# Altium footprint library ADP_Passive.PcbLib: 48 footprints (part 2 of 3)
Each footprint in its own frame and in the unit in brackets; x right, y up, seen from the top. Pads: shape width x height; smd on the part's side, far side on the other; paste and mask are expansions set on the pad; w line width, h text height; cw(c..) or ccw(c..) is an arc to the next point about the centre after c.
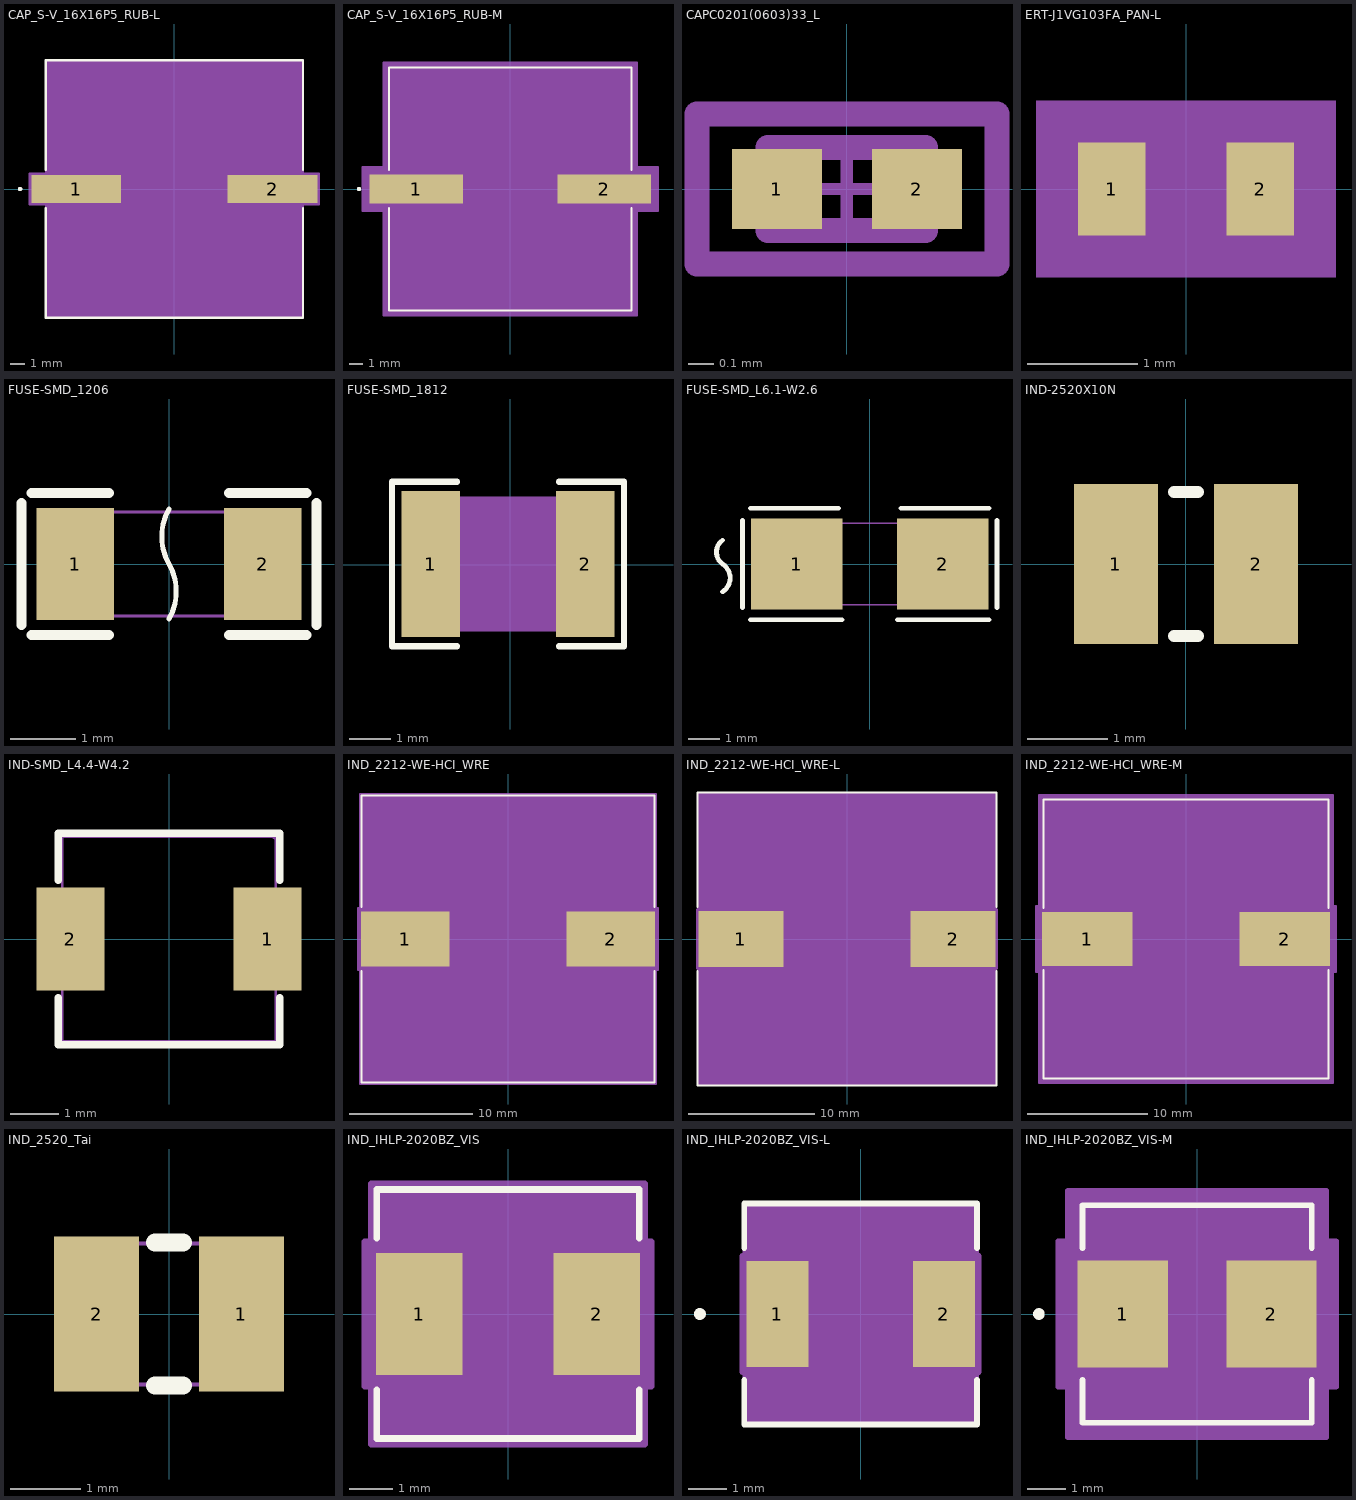
[diagram p1: the footprints below, top view; thin cyan lines are the x and y axes]

## CAP_S-V_16X16P5_RUB-L [mil]
pads (2):
  rect 240x75 smd paste+0 mask+0: 1(-262,0) 2(262,0)
Top Overlay:
  circle w6: c-412,0 r3
  lines w6: -343.5,-50.6 -343.5,-343.5 343.5,-343.5 343.5,-50.6 ; -343.5,50.6 -343.5,343.5 343.5,343.5 343.5,50.6
Mechanical 13:
  circle w0: c-318.5,0 r3
  lines w1: -338.5,-169.25 -169.25,-338.5 ; -338.5,169.25 -169.25,338.5 ; -338.5,-338.5 338.5,-338.5 338.5,338.5 -338.5,338.5 -338.5,-338.5
Mechanical 15:
  region: -342.5,-41.5 -386,-41.5 -386,41.5 -342.5,41.5 -342.5,342.5 342.5,342.5 342.5,41.5 386,41.5 386,-41.5 342.5,-41.5 342.5,-342.5 -342.5,-342.5
  lines w6: -386,-41.5 -386,41.5 -342.5,41.5 -342.5,342.5 342.5,342.5 342.5,41.5 386,41.5 386,-41.5 342.5,-41.5 342.5,-342.5 -342.5,-342.5 -342.5,-41.5 -386,-41.5
3D body "CAP_S-V_16X16P5_RUB.step": height 671.1, standoff 0, extent -370,-338.5 370,338.5

## CAP_S-V_16X16P5_RUB-M [mil]
pads (2):
  rect 264x83 smd paste+0 mask+0: 1(-266,0) 2(266,0)
Top Overlay:
  circle w6: c-428,0 r3
  lines w6: -343.5,-54.6 -343.5,-343.5 343.5,-343.5 343.5,-54.6 ; -343.5,54.6 -343.5,343.5 343.5,343.5 343.5,54.6
Mechanical 13:
  circle w0: c-318.5,0 r3
  lines w1: -338.5,-169.25 -169.25,-338.5 ; -338.5,169.25 -169.25,338.5 ; -338.5,-338.5 -338.5,338.5 338.5,338.5 338.5,-338.5 -338.5,-338.5
Mechanical 15:
  region: -358.5,-61.5 -418,-61.5 -418,61.5 -358.5,61.5 -358.5,358.5 358.5,358.5 358.5,61.5 418,61.5 418,-61.5 358.5,-61.5 358.5,-358.5 -358.5,-358.5
  lines w6: -418,-61.5 -358.5,-61.5 -358.5,-358.5 358.5,-358.5 358.5,-61.5 418,-61.5 418,61.5 358.5,61.5 358.5,358.5 -358.5,358.5 -358.5,61.5 -418,61.5 -418,-61.5
3D body "CAP_S-V_16X16P5_RUB.step": height 671.1, standoff 0, extent -370,-338.5 370,338.5

## CAPC0201(0603)33_L [mm] "Chip Capacitor, Body 0.6x0.3mm, Height 0.33mm, IPC High Density"
height 0.33
pads (2):
  rect 0.36x0.32 smd: 1(-0.28,0) 2(0.28,0)
Top Assembly:
  lines w0.1: -0.6,-0.3 0.6,-0.3 0.6,0.3 -0.6,0.3 -0.6,-0.3
  text "'.Designator'" at 0.313,-2.128 h0.8
Top Courtyard:
  lines w0.05: -0.165,0 0.165,0 ; 0,-0.165 0,0.165 ; -0.6,-0.3 0.6,-0.3 0.6,0.3 -0.6,0.3 -0.6,-0.3
Top Component Outline:
  lines w0.1: -0.315,-0.165 -0.315,0.165 0.315,0.165 0.315,-0.165 -0.315,-0.165
3D body: height 0.33, standoff 0, extent -0.165,-0.165 0.165,0.165
3D body: height 0.33, standoff 0, extent -0.315,-0.165 -0.165,0.165
3D body: height 0.33, standoff 0, extent 0.165,-0.165 0.315,0.165

## ERT-J1VG103FA_PAN-L [mil]
pads (2):
  rect 24x33 smd paste+0 mask+0: 1(-26.5,0) 2(26.5,0)
Mechanical 5:
  region: 53.5,-31.5 -53.5,-31.5 -53.5,31.5 53.5,31.5
Mechanical 13:
  lines w1: -34.5,-17.5 -34.5,17.5 ; -34.5,-17.5 34.5,-17.5 ; -34.5,-17.5 -14.5,-17.5 -14.5,17.5 -34.5,17.5 ; -34.5,-17.5 -34.5,17.5 ; -34.5,17.5 34.5,17.5 ; 34.5,-17.5 34.5,17.5 ; 34.5,-17.5 34.5,17.5 ; 34.5,-17.5 14.5,-17.5 14.5,17.5 34.5,17.5
Mechanical 15:
  region: 42.5,-20.5 -42.5,-20.5 -42.5,20.5 42.5,20.5
  lines w6: -42.5,-20.5 42.5,-20.5 42.5,20.5 -42.5,20.5 -42.5,-20.5
3D body "ERT-J1VG103FA_PAN.step": height 35, standoff 0, extent -34.49,-17.48 34.49,17.48

## FUSE-SMD_1206 [mm]
pads (2):
  rect 1.19x1.728 smd: 1(-1.445,0) 2(1.445,0)
Top Overlay:
  lines w0.076: 0,-0.845 ccw(c-0.732,-0.422) 0,0 cw(c0.732,0.422) 0,0.845
  lines w0.152: -2.269,-0.94 -2.269,0.94 ; -2.116,-1.093 -0.926,-1.093 ; -2.116,1.093 -0.926,1.093 ; 0.926,-1.093 2.116,-1.093 ; 0.926,1.093 2.116,1.093 ; 2.269,-0.94 2.269,0.94
Mechanical 15:
  region: 1.1,-0.8 1.6,-0.8 1.6,0.8 1.1,0.8
  region: -1.6,-0.8 -1.1,-0.8 -1.1,0.8 -1.6,0.8
  region: -1.54,-0.8 -1.54,-0.775 -1.575,-0.74 -1.625,-0.74 -1.66,-0.775 -1.66,-0.8 -1.66,-0.825 -1.625,-0.86 -1.575,-0.86 -1.54,-0.825 -1.54,-0.8
  lines w0.051: -1.6,-0.8 -1.6,0.8 1.6,0.8 1.6,-0.8 -1.6,-0.8

## FUSE-SMD_1812 [mm]
pads (2):
  rect 1.407x3.499 smd: 1(-1.913,0.022) 2(1.794,0.022)
Top Overlay:
  lines w0.152: -1.286,-1.956 -2.845,-1.956 -2.845,2.001 -1.286,2.001 ; 1.167,-1.956 2.726,-1.956 2.726,2.001 1.167,2.001
Top Paste:
  region: -1.21,-1.627 -1.21,-0.672 -1.31,-0.572 -1.588,-0.572 -1.688,-0.472 -1.688,0.517 -1.588,0.617 -1.31,0.617 -1.21,0.717 -1.21,1.672 -1.31,1.772 -2.516,1.772 -2.616,1.672 -2.616,-1.627 -2.516,-1.727 -1.31,-1.727
  region: 1.09,-1.627 1.09,-0.672 1.19,-0.572 1.469,-0.572 1.569,-0.472 1.569,0.517 1.469,0.617 1.19,0.617 1.09,0.717 1.09,1.672 1.19,1.772 2.397,1.772 2.497,1.672 2.497,-1.627 2.397,-1.727 1.19,-1.727
Mechanical 4:
  region: -2.335,-1.598 -2.335,1.642 2.215,1.642 2.215,-1.598
Mechanical 5:
  region: 2.215,-1.598 2.215,1.642 1.465,1.642 1.465,-1.598
  region: -2.335,-1.598 -2.335,1.642 -1.585,1.642 -1.585,-1.598
Mechanical 6:
  circle w0.06: c-2.335,-1.598 r0.03
Mechanical 15:
  lines w0.003: -0.085,0.399 -0.034,0.449

## FUSE-SMD_L6.1-W2.6 [mm]
pads (2):
  rect 2.91x2.911 smd paste-100 mask+0.051: 1(-2.33,0) 2(2.33,0)
Top Overlay:
  lines w0.152: -4.699,-0.889 ccw(c-4.986,-0.445) -4.699,0 cw(c-4.429,0.381) -4.699,0.762 ; -4.064,-1.401 -4.064,1.393 ; -3.81,-1.778 -0.889,-1.778 ; -3.81,1.778 -1.002,1.778 ; 0.889,-1.778 3.81,-1.778 ; 1.002,1.778 3.81,1.778 ; 4.064,-1.397 4.064,1.397
Top Paste:
  region: -0.875,-1.355 -0.875,-0.595 -0.975,-0.495 -1.764,-0.495 -1.864,-0.395 -1.864,0.395 -1.764,0.495 -0.975,0.495 -0.875,0.595 -0.875,1.355 -0.975,1.455 -3.685,1.455 -3.785,1.355 -3.785,-1.355 -3.685,-1.455 -0.975,-1.455
  region: 0.875,-1.355 0.875,-0.595 0.975,-0.495 1.764,-0.495 1.864,-0.395 1.864,0.395 1.764,0.495 0.975,0.495 0.875,0.595 0.875,1.355 0.975,1.455 3.685,1.455 3.785,1.355 3.785,-1.355 3.685,-1.455 0.975,-1.455
Mechanical 15:
  region: 3.05,-1.347 3.05,1.347 1.6,1.347 1.6,-1.347
  region: -3.05,-1.347 -3.05,1.347 -1.6,1.347 -1.6,-1.347
  region: -2.99,-1.347 -2.99,-1.323 -3.025,-1.288 -3.075,-1.288 -3.11,-1.323 -3.11,-1.347 -3.11,-1.372 -3.075,-1.407 -3.025,-1.407 -2.99,-1.372 -2.99,-1.347
  lines w0.051: -3.05,-1.3 3.05,-1.3 3.05,1.3 -3.05,1.3 -3.05,-1.3

## IND-2520X10N [mm] "Chip Capacitor, 2-Leads, Body 2.50x2.00mm, IPC Medium Density"
height 1
pads (2):
  rect 1.05x2 smd: 1(-0.875,0) 2(0.875,0)
Top Overlay:
  lines w0.152: -0.15,-0.9 0.15,-0.9 ; -0.15,0.9 0.15,0.9
3D body: height 0.25, standoff 0, extent -1.25,-1 1.25,1

## IND-SMD_L4.4-W4.2 [mm]
pads (2):
  rect 1.4x2.12 smd: 1(2.028,0) 2(-2.028,0)
Top Overlay:
  lines w0.152: -2.276,-1.212 -2.276,-2.176 2.276,-2.176 2.276,-1.212 ; -2.276,1.212 -2.276,2.176 2.276,2.176 2.276,1.212
Mechanical 15:
  region: 2.26,2.1 2.259,2.124 2.224,2.158 2.176,2.158 2.141,2.124 2.14,2.1 2.141,2.076 2.176,2.042 2.224,2.042 2.259,2.076 2.26,2.1
  region: 1.4,1 2.2,1 2.2,-1 1.4,-1
  region: -2.2,1 -1.4,1 -1.4,-1 -2.2,-1
  lines w0.051: -2.2,-2.1 -2.2,2.1 2.2,2.1 2.2,-2.1 -2.2,-2.1

## IND_2212-WE-HCI_WRE [mil]
pads (2):
  rect 282x177 smd paste+0 mask+0: 1(-327.5,0) 2(327.5,0)
Top Overlay:
  lines w6: -467.5,-101.6 -467.5,-458 467.5,-458 467.5,-101.6 ; -467.5,101.6 -467.5,458 467.5,458 467.5,101.6
Mechanical 13:
  lines w1: -462.5,-226.5 -236,-453 ; -462.5,226.5 -236,453 ; -462.5,-453 462.5,-453 462.5,453 -462.5,453 -462.5,-453
Mechanical 15:
  region: -472.5,-98.5 -478.5,-98.5 -478.5,98.5 -472.5,98.5 -472.5,463 472.5,463 472.5,98.5 478.5,98.5 478.5,-98.5 472.5,-98.5 472.5,-463 -472.5,-463
  region: 462.5,-453 -462.5,-453 -462.5,453 462.5,453
  lines w6: -478.5,-98.5 -478.5,98.5 -472.5,98.5 -472.5,463 472.5,463 472.5,98.5 478.5,98.5 478.5,-98.5 472.5,-98.5 472.5,-463 -472.5,-463 -472.5,-98.5 -478.5,-98.5
3D body "IND_2212-WE-HCI_WRE.step": height 487.99, standoff 0, extent -462.48,-452.99 462.48,452.99

## IND_2212-WE-HCI_WRE-L [mil]
pads (2):
  rect 267x175 smd paste+0 mask+0: 1(-332,0) 2(332,0)
Top Overlay:
  lines w6: -467.5,-100.45 -467.5,-458 467.5,-458 467.5,-100.45 ; -467.5,100.45 -467.5,458 467.5,458 467.5,100.45
Mechanical 13:
  lines w1: -462.5,-226.5 -236,-453 ; -462.5,226.5 -236,453 ; -462.5,-453 -462.5,453 462.5,453 462.5,-453 -462.5,-453
Mechanical 15:
  region: 462.5,-453 -462.5,-453 -462.5,453 462.5,453
  region: -466.5,-92.5 -469.5,-92.5 -469.5,92.5 -466.5,92.5 -466.5,457 466.5,457 466.5,92.5 469.5,92.5 469.5,-92.5 466.5,-92.5 466.5,-457 -466.5,-457
  lines w6: -469.5,-92.5 -466.5,-92.5 -466.5,-457 466.5,-457 466.5,-92.5 469.5,-92.5 469.5,92.5 466.5,92.5 466.5,457 -466.5,457 -466.5,92.5 -469.5,92.5 -469.5,-92.5
3D body "IND_2212-WE-HCI_WRE.step": height 487.99, standoff 0, extent -462.48,-452.99 462.48,452.99

## IND_2212-WE-HCI_WRE-M [mil]
pads (2):
  rect 297x177 smd paste+0 mask+0: 1(-324,0) 2(324,0)
Top Overlay:
  lines w6: -467.5,-101.6 -467.5,-458 467.5,-458 467.5,-101.6 ; -467.5,101.6 -467.5,458 467.5,458 467.5,101.6
Mechanical 13:
  lines w1: -462.5,-226.5 -236,-453 ; -462.5,226.5 -236,453 ; -462.5,-453 462.5,-453 462.5,453 -462.5,453 -462.5,-453
Mechanical 15:
  region: -482.5,-108.5 -492.5,-108.5 -492.5,108.5 -482.5,108.5 -482.5,473 482.5,473 482.5,108.5 492.5,108.5 492.5,-108.5 482.5,-108.5 482.5,-473 -482.5,-473
  region: 462.5,-453 -462.5,-453 -462.5,453 462.5,453
  lines w6: -492.5,-108.5 -492.5,108.5 -482.5,108.5 -482.5,473 482.5,473 482.5,108.5 492.5,108.5 492.5,-108.5 482.5,-108.5 482.5,-473 -482.5,-473 -482.5,-108.5 -492.5,-108.5
3D body "IND_2212-WE-HCI_WRE.step": height 487.99, standoff 0, extent -462.48,-452.99 462.48,452.99

## IND_2520_Tai [mm]
pads (2):
  rect 1.2x2.2 smd: 1(1.028,0) 2(-1.028,0)
Top Overlay:
  lines w0.254: -0.197,-1.016 0.197,-1.016 ; -0.197,1.016 0.197,1.016
Mechanical 15:
  region: 0.45,1 1.25,1 1.25,-1 0.45,-1
  region: -1.25,1 -0.45,1 -0.45,-1 -1.25,-1
  region: -1.16,-0.97 -1.16,-0.945 -1.195,-0.91 -1.245,-0.91 -1.28,-0.945 -1.28,-0.97 -1.28,-0.995 -1.245,-1.03 -1.195,-1.03 -1.16,-0.995 -1.16,-0.97
  lines w0.051: -1.25,-1 1.25,-1 1.25,1 -1.25,1 -1.25,-1

## IND_IHLP-2020BZ_VIS [mil]
pads (2):
  rect 78x110 smd paste+0 mask+0: 1(-80,0) 2(80,0)
Top Overlay:
  lines w6: -118,-68.1 -118,-112 118,-112 118,-68.1 ; -118,68.1 -118,112 118,112 118,68.1
Mechanical 13:
  circle w0: c-93,0 r3
  lines w1: -113,-107 -113,107 113,107 113,-107 -113,-107
Mechanical 15:
  region: -123,-65 -129,-65 -129,65 -123,65 -123,117 123,117 123,65 129,65 129,-65 123,-65 123,-117 -123,-117
  lines w6: -129,-65 -123,-65 -123,-117 123,-117 123,-65 129,-65 129,65 123,65 123,117 -123,117 -123,65 -129,65 -129,-65
3D body "IND_IHLP-2020BZ_VIS.step": height 80, standoff 0, extent -112.99,-107.01 112.99,107.01

## IND_IHLP-2020BZ_VIS-L [mil]
pads (2):
  rect 63x108 smd paste+0 mask+0: 1(-84.5,0) 2(84.5,0)
Top Overlay:
  circle w6: c-163,0 r3
  lines w6: -118,-66.95 -118,-112 118,-112 118,-66.95 ; -118,66.95 -118,112 118,112 118,66.95
Mechanical 13:
  circle w0: c-93,0 r3
  lines w1: -113,-107 -113,107 113,107 113,-107 -113,-107
Mechanical 15:
  region: -117,-59 -120,-59 -120,59 -117,59 -117,111 117,111 117,59 120,59 120,-59 117,-59 117,-111 -117,-111
  lines w6: -120,-59 -117,-59 -117,-111 117,-111 117,-59 120,-59 120,59 117,59 117,111 -117,111 -117,59 -120,59 -120,-59
3D body "IND_IHLP-2020BZ_VIS.step": height 80, standoff 0, extent -112.99,-107.01 112.99,107.01

## IND_IHLP-2020BZ_VIS-M [mil]
pads (2):
  rect 93x110 smd paste+0 mask+0: 1(-76.5,0) 2(76.5,0)
Top Overlay:
  circle w6: c-163,0 r3
  lines w6: -118,-68.1 -118,-112 118,-112 118,-68.1 ; -118,68.1 -118,112 118,112 118,68.1
Mechanical 13:
  circle w0: c-93,0 r3
  lines w1: -113,-107 -113,107 113,107 113,-107 -113,-107
Mechanical 15:
  region: -133,-75 -143,-75 -143,75 -133,75 -133,127 133,127 133,75 143,75 143,-75 133,-75 133,-127 -133,-127
  lines w6: -143,-75 -133,-75 -133,-127 133,-127 133,-75 143,-75 143,75 133,75 133,127 -133,127 -133,75 -143,75 -143,-75
3D body "IND_IHLP-2020BZ_VIS.step": height 80, standoff 0, extent -112.99,-107.01 112.99,107.01